# Altium schematic symbol library Schlib1.SchLib: 2 symbols
Pins are listed as number, name and electrical type; pins without a type are passive.

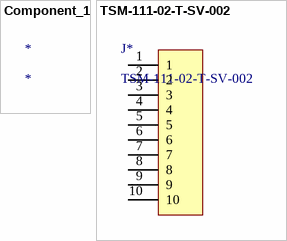
[diagram p0: symbols Component_1 to TSM-111-02-T-SV-002]

## Component_1
designator *

## TSM-111-02-T-SV-002
designator J*
CONN HEADER SMD 11POS 2.54MM; Manufacturer: Samtec; Manufacturer Lifecycle Status: PRODUCTION; Description: Conn Unshrouded Header HDR 11 POS 2.54mm Solder ST Top Entry SMD Tube; Gender: Male; Number of Contacts: 11; Supplier: DigiKey; Supplier Part Number: 612-TSM-111-02-T-SV-002-ND; Manufacturer Part Number: TSM-111-02-T-SV-002; RoHS: Compliant; Category: Headers and Wire Housings; Pricing: 1=1,42 (USD); Contact Plating: Tin; Lead Free: Lead Free; Lifecycle Status: Production; Number of Rows: 1; Packaging: Bulk; Pitch: 2.54mm; Radiation Hardening: No; Termination: Solder; ComponentLink1URL: https://datasheet.octopart.com:443/TSM-111-02-T-SV-002-Samtec-datasheet-97319594.pdf?src-supplier=Newark; ComponentLink1Description: https://datasheet.octopart.com:443/TSM-111-02-T-SV-002-Samtec-datasheet-97319594.pdf?src-supplier=Newark; ComponentLink2URL: https://sigma.octopart.com:443/97319600/technical_drawing/Samtec-TSM-111-02-T-SV-002.pdf?src-supplier=Samtec; ComponentLink2Description: https://sigma.octopart.com:443/97319600/technical_drawing/Samtec-TSM-111-02-T-SV-002.pdf?src-supplier=Samtec; ComponentLink3URL: https://datasheet.octopart.com:443/TSM-111-02-T-SV-002-Samtec-datasheet-141160580.pdf?src-supplier=Master+Electronics; ComponentLink3Description: https://datasheet.octopart.com:443/TSM-111-02-T-SV-002-Samtec-datasheet-141160580.pdf?src-supplier=Master+Electronics; ComponentLink4URL: https://datasheet.octopart.com:443/TSM-111-02-T-SV-002-Samtec-datasheet-136986414.pdf?src-supplier=Master+Electronics; ComponentLink4Description: https://datasheet.octopart.com:443/TSM-111-02-T-SV-002-Samtec-datasheet-136986414.pdf?src-supplier=Master+Electronics; ComponentLink5URL: https://datasheet.octopart.com:443/TSM-111-02-T-SV-002-Samtec-datasheet-68527555.pdf?src-supplier=Sager+Electronics; ComponentLink5Description: https://datasheet.octopart.com:443/TSM-111-02-T-SV-002-Samtec-datasheet-68527555.pdf?src-supplier=Sager+Electronics; ComponentLink6URL: https://datasheet.octopart.com:443/TSM-111-02-T-SV-002-Samtec-datasheet-155753699.pdf?src-supplier=Sager+Electronics; ComponentLink6Description: https://datasheet.octopart.com:443/TSM-111-02-T-SV-002-Samtec-datasheet-155753699.pdf?src-supplier=Sager+Electronics; ComponentLink7URL: https://datasheet.octopart.com:443/TSM-111-02-T-SV-002-Samtec-datasheet-151555687.pdf?src-supplier=Sager+Electronics; ComponentLink7Description: https://datasheet.octopart.com:443/TSM-111-02-T-SV-002-Samtec-datasheet-151555687.pdf?src-supplier=Sager+Electronics; ComponentLink8URL: https://datasheet.octopart.com:443/TSM-111-02-T-SV-002-Samtec-datasheet-151470509.pdf?src-supplier=Sager+Electronics; ComponentLink8Description: https://datasheet.octopart.com:443/TSM-111-02-T-SV-002-Samtec-datasheet-151470509.pdf?src-supplier=Sager+Electronics; ComponentLink9URL: https://datasheet.octopart.com:443/TSM-111-02-T-SV-002-Samtec-datasheet-179063997.pdf?src-supplier=JRH+Electronics; ComponentLink9Description: https://datasheet.octopart.com:443/TSM-111-02-T-SV-002-Samtec-datasheet-179063997.pdf?src-supplier=JRH+Electronics
pins: 1, 2, 3, 4, 5, 6, 7, 8, 9, 10